# Altium schematic symbol library Connectors.SchLib: 2 symbols
Pins are listed as number, name and electrical type; pins without a type are passive.

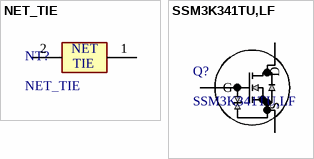
[diagram p0: symbols NET_TIE to SSM3K341TU,LF]

## NET_TIE
designator NT?
Net Tie Pad
footprint NET_TIE
pins: 1, 2
text: NET; TIE

## SSM3K341TU,LF
designator Q?
N-ch MOSFET, 60 V, 6.0 A, 0.036 Î©@10V, SOT-323F(UFM); Manufacturer_Name: Toshiba Electronic Devices & Storage Corp.; Copyright: Copyright (C) 2025 Ultra Librarian. All rights reserved.; Manufacturer_Part_Number: SSM3K341TU,LF; Datasheet: https://toshiba.semicon-storage.com/info/docget.jsp?did=56016&prodName=SSM3K341TU
footprint SOT-323F_2-2U1S_UFM_TOS
pins: 1 G, 2 S, 3 D